# Altium schematic symbol library AI-1027-TWT-3V-R.SchLib: 1 symbol
Pins are listed as number, name and electrical type; pins without a type are passive.

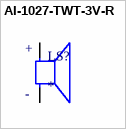
[diagram p0: symbol AI-1027-TWT-3V-R]

## AI-1027-TWT-3V-R
designator LS?
Buzzers Indicator, Internally Driven Electromechanical/Magnetic 3V 30mA 2.7kHz 80dB @ 3V, 10cm Through Hole PC Pins; MF: PUI Audio, Inc.; MP: AI-1027-TWT-3V-R; Price: None; SnapEDA_Link: https://www.snapeda.com/parts/AI-1027-TWT-3V-R/PUI%20Audio,%20Inc./view-part/7376009/?ref=snap; Purchase-URL: https://pricing.snapeda.com/search/part/AI-1027-TWT-3V-R/?ref=eda; Check_prices: https://www.snapeda.com/parts/AI-1027-TWT-3V-R/PUI%20Audio,%20Inc./view-part/7376009/?ref=eda; Value: *; Package: None; Availability: In Stock
footprint XDCR_AI-1027-TWT-3V-R
footprint XDCR_AI-1027-TWT-3V-R
pins: N, P
text: +; -